# Altium integrated library NSC MiscPower.IntLib: 1417 symbols (part 31 of 39)
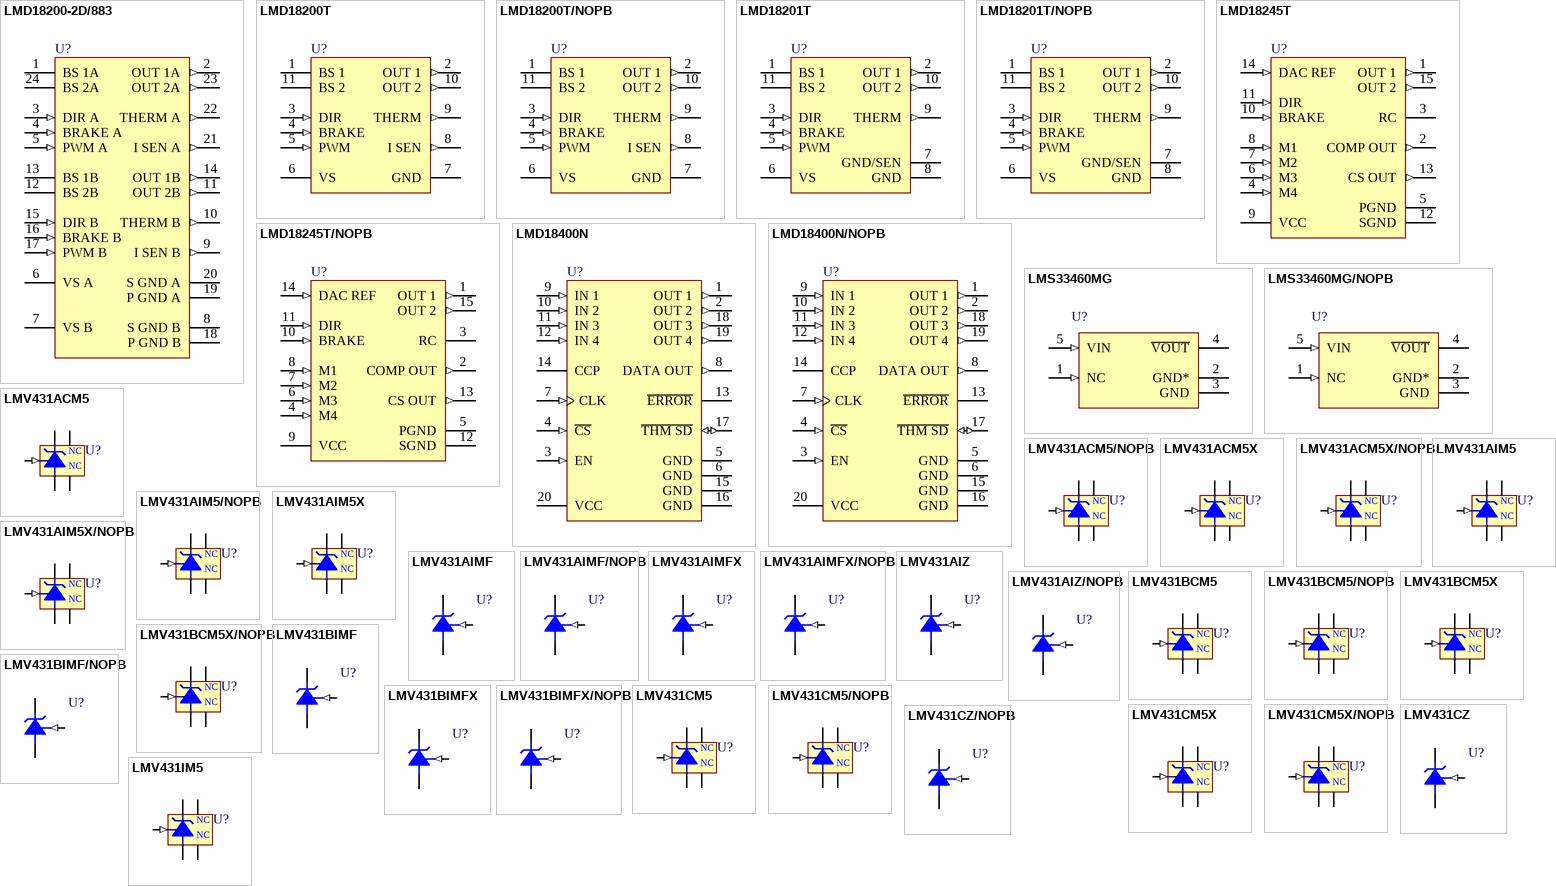
[diagram p81: symbols LMD18200-2D/883 to LMV431IM5]

## LMV431BCM5X/NOPB
designator U?
Low-Voltage (1.24V) Adjustable Precision Shunt Regulators, 5-pin SOT-23, Pb-Free; PartNumber: LMV431BCM5X/NOPB; Manufacturer: National Semiconductor; PackageTopMarking: N09C*XTT; PowerWise: N; CompType: MiscPower; Published: 1-Mar-2010; DatasheetVersion: May-2005; PackageVersion: revD, Aug-2008; PackageReference: MF05A; Publisher: Altium Limited; PackageDescription: Molded SOT-23, .115 x .063 x .040 in Body, 5 Lead, .0375 in Pitch; Supplier 1: Digi-Key; Supplier Part Number 1: LMV431BCM5X-ND; RoHS: Y; PinCount: 5; ComponentLink1Description: LMV431B Datasheet; ComponentLink1URL: http://www.national.com/ds/LM/LMV431B.pdf; ComponentLink2Description: LMV431B Web Page; ComponentLink2URL: http://www.national.com/pf/LM/LMV431B.html; ComponentLink3Description: MF05A Package Page; ComponentLink3URL: http://www.national.com/packaging/folders/mf05a.html
footprint MF05A_N (SOT23, 5-Leads, Body 2.9x1.6mm, Pitch 0.95mm, Lead Span 2.8mm, IPC Medium Density)
footprint MF05A_L (SOT23, 5-Leads, Body 2.9x1.6mm, Pitch 0.95mm, Lead Span 2.8mm, IPC High Density)
footprint MF05A_M (SOT23, 5-Leads, Body 2.9x1.6mm, Pitch 0.95mm, Lead Span 2.8mm, IPC Low Density)
pins: 1 NC, 2 NC, 3 K, 4 REF (in), 5 A

## LMV431BIMF
designator U?
Low-Voltage (1.24V) Adjustable Precision Shunt Regulator, 3-pin SOT-23; PartNumber: LMV431BIMF; Manufacturer: National Semiconductor; PackageTopMarking: RLB*XTT; PowerWise: N; CompType: MiscPower; Published: 4-Dec-2008; DatasheetVersion: May-2005; PackageVersion: revB, Mar-2003; PackageReference: MF03A; Publisher: Altium Limited; PackageDescription: Molded SOT-23, .115 x .051 x .037in Body, 3 Lead, .075 in Pitch; Supplier 1: Farnell; Supplier Part Number 1: 1798372; RoHS: N; PinCount: 3; ComponentLink1Description: LMV431B Datasheet; ComponentLink1URL: http://www.national.com/ds/LM/LMV431B.pdf; ComponentLink2Description: LMV431B Web Page; ComponentLink2URL: http://www.national.com/pf/LM/LMV431B.html; ComponentLink3Description: MF03A Package Page; ComponentLink3URL: http://www.national.com/packaging/folders/mf03a.html
footprint MF03A_N (SOT23, 3-Leads, Body 2.9x1.3mm, Pitch 0.95mm, Lead Span 2.4mm, IPC Medium Density)
footprint MF03A_L (SOT23, 3-Leads, Body 2.9x1.3mm, Pitch 0.95mm, Lead Span 2.4mm, IPC High Density)
footprint MF03A_M (SOT23, 3-Leads, Body 2.9x1.3mm, Pitch 0.95mm, Lead Span 2.4mm, IPC Low Density)
pins: 1 REF (in), 2 K, 3 A

## LMV431BIMF/NOPB
designator U?
Low-Voltage (1.24V) Adjustable Precision Shunt Regulators, 3-pin SOT-23, Pb-Free; PartNumber: LMV431BIMF/NOPB; Manufacturer: National Semiconductor; PackageTopMarking: RLB*XTT; PowerWise: N; CompType: MiscPower; Published: 1-Mar-2010; DatasheetVersion: May-2005; PackageVersion: revB, Mar-2003; PackageReference: MF03A; Publisher: Altium Limited; PackageDescription: Molded SOT-23, .115 x .051 x .037in Body, 3 Lead, .075 in Pitch; Supplier 1: Digi-Key; Supplier Part Number 1: LMV431BIMFTR-ND; Supplier 2: Digi-Key; Supplier Part Number 2: LMV431BIMFCT-ND; Supplier 3: Digi-Key; Supplier Part Number 3: LMV431BIMFDKR-ND; RoHS: Y; PinCount: 3; ComponentLink1Description: LMV431B Datasheet; ComponentLink1URL: http://www.national.com/ds/LM/LMV431B.pdf; ComponentLink2Description: LMV431B Web Page; ComponentLink2URL: http://www.national.com/pf/LM/LMV431B.html; ComponentLink3Description: MF03A Package Page; ComponentLink3URL: http://www.national.com/packaging/folders/mf03a.html
footprint MF03A_N (SOT23, 3-Leads, Body 2.9x1.3mm, Pitch 0.95mm, Lead Span 2.4mm, IPC Medium Density)
footprint MF03A_L (SOT23, 3-Leads, Body 2.9x1.3mm, Pitch 0.95mm, Lead Span 2.4mm, IPC High Density)
footprint MF03A_M (SOT23, 3-Leads, Body 2.9x1.3mm, Pitch 0.95mm, Lead Span 2.4mm, IPC Low Density)
pins: 1 REF (in), 2 K, 3 A

## LMV431BIMFX
designator U?
Low-Voltage (1.24V) Adjustable Precision Shunt Regulators, 3-pin SOT-23; PartNumber: LMV431BIMFX; Manufacturer: National Semiconductor; PackageTopMarking: RLB*XTT; PowerWise: N; CompType: MiscPower; Published: 1-Mar-2010; DatasheetVersion: May-2005; PackageVersion: revB, Mar-2003; PackageReference: MF03A; Publisher: Altium Limited; PackageDescription: Molded SOT-23, .115 x .051 x .037in Body, 3 Lead, .075 in Pitch; RoHS: N; PinCount: 3; ComponentLink1Description: LMV431B Datasheet; ComponentLink1URL: http://www.national.com/ds/LM/LMV431B.pdf; ComponentLink2Description: LMV431B Web Page; ComponentLink2URL: http://www.national.com/pf/LM/LMV431B.html; ComponentLink3Description: MF03A Package Page; ComponentLink3URL: http://www.national.com/packaging/folders/mf03a.html
footprint MF03A_N (SOT23, 3-Leads, Body 2.9x1.3mm, Pitch 0.95mm, Lead Span 2.4mm, IPC Medium Density)
footprint MF03A_L (SOT23, 3-Leads, Body 2.9x1.3mm, Pitch 0.95mm, Lead Span 2.4mm, IPC High Density)
footprint MF03A_M (SOT23, 3-Leads, Body 2.9x1.3mm, Pitch 0.95mm, Lead Span 2.4mm, IPC Low Density)
pins: 1 REF (in), 2 K, 3 A

## LMV431BIMFX/NOPB
designator U?
Low-Voltage (1.24V) Adjustable Precision Shunt Regulators, 3-pin SOT-23, Pb-Free; PartNumber: LMV431BIMFX/NOPB; Manufacturer: National Semiconductor; PackageTopMarking: RLB*XTT; PowerWise: N; CompType: MiscPower; Published: 1-Mar-2010; DatasheetVersion: May-2005; PackageVersion: revB, Mar-2003; PackageReference: MF03A; Publisher: Altium Limited; PackageDescription: Molded SOT-23, .115 x .051 x .037in Body, 3 Lead, .075 in Pitch; Supplier 1: Digi-Key; Supplier Part Number 1: LMV431BIMFX-ND; RoHS: Y; PinCount: 3; ComponentLink1Description: LMV431B Datasheet; ComponentLink1URL: http://www.national.com/ds/LM/LMV431B.pdf; ComponentLink2Description: LMV431B Web Page; ComponentLink2URL: http://www.national.com/pf/LM/LMV431B.html; ComponentLink3Description: MF03A Package Page; ComponentLink3URL: http://www.national.com/packaging/folders/mf03a.html
footprint MF03A_N (SOT23, 3-Leads, Body 2.9x1.3mm, Pitch 0.95mm, Lead Span 2.4mm, IPC Medium Density)
footprint MF03A_L (SOT23, 3-Leads, Body 2.9x1.3mm, Pitch 0.95mm, Lead Span 2.4mm, IPC High Density)
footprint MF03A_M (SOT23, 3-Leads, Body 2.9x1.3mm, Pitch 0.95mm, Lead Span 2.4mm, IPC Low Density)
pins: 1 REF (in), 2 K, 3 A

## LMV431CM5
designator U?
Low-Voltage (1.24V) Adjustable Precision Shunt Regulator, 5-pin SOT-23; PartNumber: LMV431CM5; Manufacturer: National Semiconductor; PackageTopMarking: N09B*XTT; PowerWise: N; CompType: MiscPower; Published: 4-Dec-2008; DatasheetVersion: May-2005; PackageVersion: revD, Aug-2008; PackageReference: MF05A; Publisher: Altium Limited; PackageDescription: Molded SOT-23, .115 x .063 x .040 in Body, 5 Lead, .0375 in Pitch; Supplier 1: Digi-Key; Supplier Part Number 1: LMV431CM5TR-ND; Supplier 2: Digi-Key; Supplier Part Number 2: LMV431CM5CT-ND; Supplier 3: Farnell; Supplier Part Number 3: 9778381; RoHS: N; PinCount: 5; ComponentLink1Description: LMV431 Datasheet; ComponentLink1URL: http://www.national.com/ds/LM/LMV431.pdf; ComponentLink2Description: LMV431 Web Page; ComponentLink2URL: http://www.national.com/pf/LM/LMV431.html; ComponentLink3Description: MF05A Package Page; ComponentLink3URL: http://www.national.com/packaging/folders/mf05a.html
footprint MF05A_N (SOT23, 5-Leads, Body 2.9x1.6mm, Pitch 0.95mm, Lead Span 2.8mm, IPC Medium Density)
footprint MF05A_L (SOT23, 5-Leads, Body 2.9x1.6mm, Pitch 0.95mm, Lead Span 2.8mm, IPC High Density)
footprint MF05A_M (SOT23, 5-Leads, Body 2.9x1.6mm, Pitch 0.95mm, Lead Span 2.8mm, IPC Low Density)
pins: 1 NC, 2 NC, 3 K, 4 REF (in), 5 A

## LMV431CM5/NOPB
designator U?
Low-Voltage (1.24V) Adjustable Precision Shunt Regulators, 5-pin SOT-23, Pb-Free; PartNumber: LMV431CM5/NOPB; Manufacturer: National Semiconductor; PackageTopMarking: N09B*XTT; PowerWise: N; CompType: MiscPower; Published: 1-Mar-2010; DatasheetVersion: May-2005; PackageVersion: revD, Aug-2008; PackageReference: MF05A; Publisher: Altium Limited; PackageDescription: Molded SOT-23, .115 x .063 x .040 in Body, 5 Lead, .0375 in Pitch; Supplier 1: Digi-Key; Supplier Part Number 1: LMV431CM5/NOPBTR-ND; Supplier 2: Digi-Key; Supplier Part Number 2: LMV431CM5/NOPBCT-ND; Supplier 3: Digi-Key; Supplier Part Number 3: LMV431CM5/NOPBDKR-ND; Supplier 4: Farnell; Supplier Part Number 4: 1693974; RoHS: Y; PinCount: 5; ComponentLink1Description: LMV431 Datasheet; ComponentLink1URL: http://www.national.com/ds/LM/LMV431.pdf; ComponentLink2Description: LMV431 Web Page; ComponentLink2URL: http://www.national.com/pf/LM/LMV431.html; ComponentLink3Description: MF05A Package Page; ComponentLink3URL: http://www.national.com/packaging/folders/mf05a.html
footprint MF05A_N (SOT23, 5-Leads, Body 2.9x1.6mm, Pitch 0.95mm, Lead Span 2.8mm, IPC Medium Density)
footprint MF05A_L (SOT23, 5-Leads, Body 2.9x1.6mm, Pitch 0.95mm, Lead Span 2.8mm, IPC High Density)
footprint MF05A_M (SOT23, 5-Leads, Body 2.9x1.6mm, Pitch 0.95mm, Lead Span 2.8mm, IPC Low Density)
pins: 1 NC, 2 NC, 3 K, 4 REF (in), 5 A

## LMV431CM5X
designator U?
Low-Voltage (1.24V) Adjustable Precision Shunt Regulators, 5-pin SOT-23; PartNumber: LMV431CM5X; Manufacturer: National Semiconductor; PackageTopMarking: N09B*XTT; PowerWise: N; CompType: MiscPower; Published: 1-Mar-2010; DatasheetVersion: May-2005; PackageVersion: revD, Aug-2008; PackageReference: MF05A; Publisher: Altium Limited; PackageDescription: Molded SOT-23, .115 x .063 x .040 in Body, 5 Lead, .0375 in Pitch; Supplier 1: Digi-Key; Supplier Part Number 1: LMV431CM5X-ND; RoHS: N; PinCount: 5; ComponentLink1Description: LMV431 Datasheet; ComponentLink1URL: http://www.national.com/ds/LM/LMV431.pdf; ComponentLink2Description: LMV431 Web Page; ComponentLink2URL: http://www.national.com/pf/LM/LMV431.html; ComponentLink3Description: MF05A Package Page; ComponentLink3URL: http://www.national.com/packaging/folders/mf05a.html
footprint MF05A_N (SOT23, 5-Leads, Body 2.9x1.6mm, Pitch 0.95mm, Lead Span 2.8mm, IPC Medium Density)
footprint MF05A_L (SOT23, 5-Leads, Body 2.9x1.6mm, Pitch 0.95mm, Lead Span 2.8mm, IPC High Density)
footprint MF05A_M (SOT23, 5-Leads, Body 2.9x1.6mm, Pitch 0.95mm, Lead Span 2.8mm, IPC Low Density)
pins: 1 NC, 2 NC, 3 K, 4 REF (in), 5 A

## LMV431CM5X/NOPB
designator U?
Low-Voltage (1.24V) Adjustable Precision Shunt Regulators, 5-pin SOT-23, Pb-Free; PartNumber: LMV431CM5X/NOPB; Manufacturer: National Semiconductor; PackageTopMarking: N09B*XTT; PowerWise: N; CompType: MiscPower; Published: 1-Mar-2010; DatasheetVersion: May-2005; PackageVersion: revD, Aug-2008; PackageReference: MF05A; Publisher: Altium Limited; PackageDescription: Molded SOT-23, .115 x .063 x .040 in Body, 5 Lead, .0375 in Pitch; Supplier 1: Digi-Key; Supplier Part Number 1: LMV431CM5X/NOPB-ND; RoHS: Y; PinCount: 5; ComponentLink1Description: LMV431 Datasheet; ComponentLink1URL: http://www.national.com/ds/LM/LMV431.pdf; ComponentLink2Description: LMV431 Web Page; ComponentLink2URL: http://www.national.com/pf/LM/LMV431.html; ComponentLink3Description: MF05A Package Page; ComponentLink3URL: http://www.national.com/packaging/folders/mf05a.html
footprint MF05A_N (SOT23, 5-Leads, Body 2.9x1.6mm, Pitch 0.95mm, Lead Span 2.8mm, IPC Medium Density)
footprint MF05A_L (SOT23, 5-Leads, Body 2.9x1.6mm, Pitch 0.95mm, Lead Span 2.8mm, IPC High Density)
footprint MF05A_M (SOT23, 5-Leads, Body 2.9x1.6mm, Pitch 0.95mm, Lead Span 2.8mm, IPC Low Density)
pins: 1 NC, 2 NC, 3 K, 4 REF (in), 5 A

## LMV431CZ
designator U?
Low-Voltage (1.24V) Adjustable Precision Shunt Regulator, 3-pin TO-92; PartNumber: LMV431CZ; Manufacturer: National Semiconductor; PackageTopMarking: NSXYTT*LMV431*CZ; PowerWise: N; CompType: MiscPower; Published: 29-May-2009; DatasheetVersion: May-2005; PackageVersion: revG, Sep-2000; PackageReference: Z03A; Publisher: Altium Limited; PackageDescription: TO-92, Molded, 3 Lead; Supplier 1: Farnell; Supplier Part Number 1: 9486240; RoHS: N; PinCount: 3; Code_JEDEC: TO-226-AA; ComponentLink1Description: LMV431 Datasheet; ComponentLink1URL: http://www.national.com/ds/LM/LMV431.pdf; ComponentLink2Description: LMV431 Web Page; ComponentLink2URL: http://www.national.com/pf/LM/LMV431.html; ComponentLink3Description: Z03A Package Page; ComponentLink3URL: http://www.national.com/packaging/folders/z03a.html
footprint Z03A (TO, Flat Index; 3 In-Line, Axial Leads; Body Dia. 5mm; Leads 0.55 x 0.50 mm (max))
pins: 1 REF (in), 2 A, 3 K

## LMV431CZ/NOPB
designator U?
Low-Voltage (1.24V) Adjustable Precision Shunt Regulators, 3-pin TO-92, Pb-Free; PartNumber: LMV431CZ/NOPB; Manufacturer: National Semiconductor; PackageTopMarking: NSXYTT*LMV431*CZ; PowerWise: N; CompType: MiscPower; Published: 1-Mar-2010; DatasheetVersion: May-2005; PackageVersion: revG, Sep-2000; PackageReference: Z03A; Publisher: Altium Limited; PackageDescription: TO-92, Molded, 3 Lead; Supplier 1: Digi-Key; Supplier Part Number 1: LMV431CZ-ND; RoHS: Y; PinCount: 3; Code_JEDEC: TO-226-AA; ComponentLink1Description: LMV431 Datasheet; ComponentLink1URL: http://www.national.com/ds/LM/LMV431.pdf; ComponentLink2Description: LMV431 Web Page; ComponentLink2URL: http://www.national.com/pf/LM/LMV431.html; ComponentLink3Description: Z03A Package Page; ComponentLink3URL: http://www.national.com/packaging/folders/z03a.html
footprint Z03A (TO, Flat Index; 3 In-Line, Axial Leads; Body Dia. 5mm; Leads 0.55 x 0.50 mm (max))
pins: 1 REF (in), 2 A, 3 K

## LMV431IM5
designator U?
Low-Voltage (1.24V) Adjustable Precision Shunt Regulator, 5-pin SOT-23; PartNumber: LMV431IM5; Manufacturer: National Semiconductor; PackageTopMarking: N08B*XTT; PowerWise: N; CompType: MiscPower; Published: 4-Dec-2008; DatasheetVersion: May-2005; PackageVersion: revD, Aug-2008; PackageReference: MF05A; Publisher: Altium Limited; PackageDescription: Molded SOT-23, .115 x .063 x .040 in Body, 5 Lead, .0375 in Pitch; Supplier 1: Farnell; Supplier Part Number 1: 9778390; RoHS: N; PinCount: 5; ComponentLink1Description: LMV431 Datasheet; ComponentLink1URL: http://www.national.com/ds/LM/LMV431.pdf; ComponentLink2Description: LMV431 Web Page; ComponentLink2URL: http://www.national.com/pf/LM/LMV431.html; ComponentLink3Description: MF05A Package Page; ComponentLink3URL: http://www.national.com/packaging/folders/mf05a.html
footprint MF05A_N (SOT23, 5-Leads, Body 2.9x1.6mm, Pitch 0.95mm, Lead Span 2.8mm, IPC Medium Density)
footprint MF05A_L (SOT23, 5-Leads, Body 2.9x1.6mm, Pitch 0.95mm, Lead Span 2.8mm, IPC High Density)
footprint MF05A_M (SOT23, 5-Leads, Body 2.9x1.6mm, Pitch 0.95mm, Lead Span 2.8mm, IPC Low Density)
pins: 1 NC, 2 NC, 3 K, 4 REF (in), 5 A

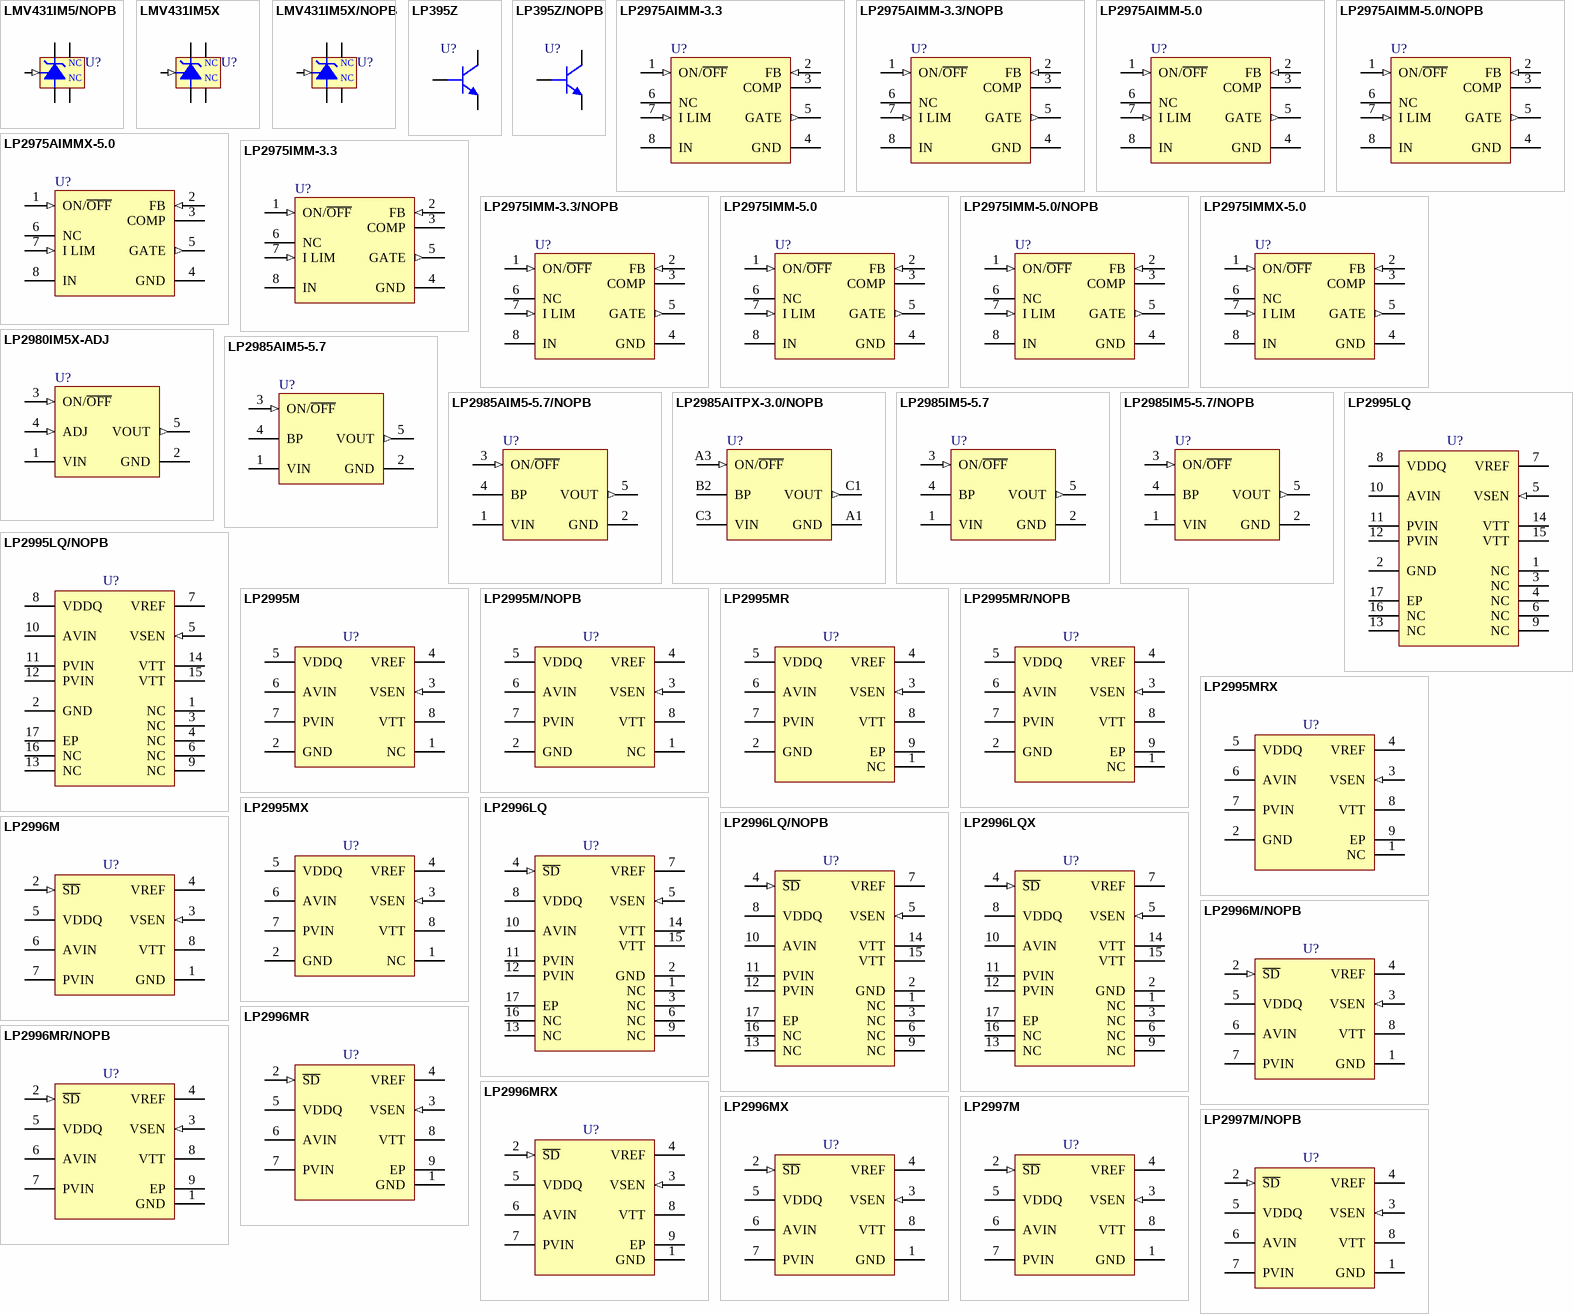
[diagram p34: symbols LMV431IM5/NOPB to LP2997M/NOPB]

## LMV431IM5/NOPB
designator U?
Low-Voltage (1.24V) Adjustable Precision Shunt Regulators, 5-pin SOT-23, Pb-Free; PartNumber: LMV431IM5/NOPB; Manufacturer: National Semiconductor; PackageTopMarking: N08B*XTT; PowerWise: N; CompType: MiscPower; Published: 1-Mar-2010; DatasheetVersion: May-2005; PackageVersion: revD, Aug-2008; PackageReference: MF05A; Publisher: Altium Limited; PackageDescription: Molded SOT-23, .115 x .063 x .040 in Body, 5 Lead, .0375 in Pitch; Supplier 1: Digi-Key; Supplier Part Number 1: LMV431IM5TR-ND; Supplier 2: Digi-Key; Supplier Part Number 2: LMV431IM5CT-ND; Supplier 3: Digi-Key; Supplier Part Number 3: LMV431IM5DKR-ND; Supplier 4: Farnell; Supplier Part Number 4: 1693975; RoHS: Y; PinCount: 5; ComponentLink1Description: LMV431 Datasheet; ComponentLink1URL: http://www.national.com/ds/LM/LMV431.pdf; ComponentLink2Description: LMV431 Web Page; ComponentLink2URL: http://www.national.com/pf/LM/LMV431.html; ComponentLink3Description: MF05A Package Page; ComponentLink3URL: http://www.national.com/packaging/folders/mf05a.html
footprint MF05A_N (SOT23, 5-Leads, Body 2.9x1.6mm, Pitch 0.95mm, Lead Span 2.8mm, IPC Medium Density)
footprint MF05A_L (SOT23, 5-Leads, Body 2.9x1.6mm, Pitch 0.95mm, Lead Span 2.8mm, IPC High Density)
footprint MF05A_M (SOT23, 5-Leads, Body 2.9x1.6mm, Pitch 0.95mm, Lead Span 2.8mm, IPC Low Density)
pins: 1 NC, 2 NC, 3 K, 4 REF (in), 5 A

## LMV431IM5X
designator U?
Low-Voltage (1.24V) Adjustable Precision Shunt Regulators, 5-pin SOT-23; PartNumber: LMV431IM5X; Manufacturer: National Semiconductor; PackageTopMarking: N08B*XTT; PowerWise: N; CompType: MiscPower; Published: 1-Mar-2010; DatasheetVersion: May-2005; PackageVersion: revD, Aug-2008; PackageReference: MF05A; Publisher: Altium Limited; PackageDescription: Molded SOT-23, .115 x .063 x .040 in Body, 5 Lead, .0375 in Pitch; RoHS: N; PinCount: 5; ComponentLink1Description: LMV431 Datasheet; ComponentLink1URL: http://www.national.com/ds/LM/LMV431.pdf; ComponentLink2Description: LMV431 Web Page; ComponentLink2URL: http://www.national.com/pf/LM/LMV431.html; ComponentLink3Description: MF05A Package Page; ComponentLink3URL: http://www.national.com/packaging/folders/mf05a.html
footprint MF05A_N (SOT23, 5-Leads, Body 2.9x1.6mm, Pitch 0.95mm, Lead Span 2.8mm, IPC Medium Density)
footprint MF05A_L (SOT23, 5-Leads, Body 2.9x1.6mm, Pitch 0.95mm, Lead Span 2.8mm, IPC High Density)
footprint MF05A_M (SOT23, 5-Leads, Body 2.9x1.6mm, Pitch 0.95mm, Lead Span 2.8mm, IPC Low Density)
pins: 1 NC, 2 NC, 3 K, 4 REF (in), 5 A

## LMV431IM5X/NOPB
designator U?
Low-Voltage (1.24V) Adjustable Precision Shunt Regulators, 5-pin SOT-23, Pb-Free; PartNumber: LMV431IM5X/NOPB; Manufacturer: National Semiconductor; PackageTopMarking: N08B*XTT; PowerWise: N; CompType: MiscPower; Published: 1-Mar-2010; DatasheetVersion: May-2005; PackageVersion: revD, Aug-2008; PackageReference: MF05A; Publisher: Altium Limited; PackageDescription: Molded SOT-23, .115 x .063 x .040 in Body, 5 Lead, .0375 in Pitch; Supplier 1: Digi-Key; Supplier Part Number 1: LMV431IM5X-ND; RoHS: Y; PinCount: 5; ComponentLink1Description: LMV431 Datasheet; ComponentLink1URL: http://www.national.com/ds/LM/LMV431.pdf; ComponentLink2Description: LMV431 Web Page; ComponentLink2URL: http://www.national.com/pf/LM/LMV431.html; ComponentLink3Description: MF05A Package Page; ComponentLink3URL: http://www.national.com/packaging/folders/mf05a.html
footprint MF05A_N (SOT23, 5-Leads, Body 2.9x1.6mm, Pitch 0.95mm, Lead Span 2.8mm, IPC Medium Density)
footprint MF05A_L (SOT23, 5-Leads, Body 2.9x1.6mm, Pitch 0.95mm, Lead Span 2.8mm, IPC High Density)
footprint MF05A_M (SOT23, 5-Leads, Body 2.9x1.6mm, Pitch 0.95mm, Lead Span 2.8mm, IPC Low Density)
pins: 1 NC, 2 NC, 3 K, 4 REF (in), 5 A

## LP395Z
designator U?
Ultra Reliable Power Transistor, 3-pin TO-92; PartNumber: LP395Z; Manufacturer: National Semiconductor; PackageTopMarking: NSXYTT*LP*395Z; PowerWise: N; CompType: MiscPower; Published: 4-Dec-2008; DatasheetVersion: Apr-2005; PackageVersion: revG, Sep-2000; PackageReference: Z03A; Publisher: Altium Limited; PackageDescription: TO-92, Molded, 3 Lead; Supplier 1: Farnell; Supplier Part Number 1: 9488286; RoHS: N; PinCount: 3; Code_JEDEC: TO-226-AA; ComponentLink1Description: LP395 Datasheet; ComponentLink1URL: http://www.national.com/ds/LP/LP395.pdf; ComponentLink2Description: LP395 Web Page; ComponentLink2URL: http://www.national.com/pf/LP/LP395.html; ComponentLink3Description: Z03A Package Page; ComponentLink3URL: http://www.national.com/packaging/folders/z03a.html
footprint Z03A (TO, Flat Index; 3 In-Line, Axial Leads; Body Dia. 5mm; Leads 0.55 x 0.50 mm (max))
pins: 1 C, 2 B, 3 E

## LP395Z/NOPB
designator U?
Ultra Reliable Power Transistor, 3-pin TO-92, Pb-Free; PartNumber: LP395Z/NOPB; Manufacturer: National Semiconductor; PackageTopMarking: NSXYTT*LP*395Z; PowerWise: N; CompType: MiscPower; Published: 1-Mar-2010; DatasheetVersion: Apr-2005; PackageVersion: revG, Sep-2000; PackageReference: Z03A; Publisher: Altium Limited; PackageDescription: TO-92, Molded, 3 Lead; Supplier 1: Digi-Key; Supplier Part Number 1: LP395Z-ND; Supplier 2: Farnell; Supplier Part Number 2: 1685345; RoHS: Y; PinCount: 3; Code_JEDEC: TO-226-AA; ComponentLink1Description: LP395 Datasheet; ComponentLink1URL: http://www.national.com/ds/LP/LP395.pdf; ComponentLink2Description: LP395 Web Page; ComponentLink2URL: http://www.national.com/pf/LP/LP395.html; ComponentLink3Description: Z03A Package Page; ComponentLink3URL: http://www.national.com/packaging/folders/z03a.html
footprint Z03A (TO, Flat Index; 3 In-Line, Axial Leads; Body Dia. 5mm; Leads 0.55 x 0.50 mm (max))
pins: 1 C, 2 B, 3 E

## LP2975AIMM-3.3
designator U?
MOSFET LDO Driver/Controller, 3.3V Output, 8-pin MSOP; PartNumber: LP2975AIMM-3.3; Manufacturer: National Semiconductor; PackageTopMarking: ZXTT*L45A; PowerWise: N; CompType: MiscPower; Published: 29-May-2009; DatasheetVersion: Mar-2005; PackageVersion: revF, Apr-2008; PackageReference: MUA08A; Publisher: Altium Limited; PackageDescription: MINI SOIC, .118 x .118 x .034in, 8 Lead, .0256in Pitch; RoHS: N; PinCount: 8; Code_JEDEC: MO-187-AA; ComponentLink1Description: LP2975 Datasheet; ComponentLink1URL: http://www.national.com/ds/LP/LP2975.pdf; ComponentLink2Description: LP2975 Web Page; ComponentLink2URL: http://www.national.com/pf/LP/LP2975.html; ComponentLink3Description: MUA08A Package Page; ComponentLink3URL: http://www.national.com/packaging/folders/mua08a.html
footprint MUA08A_N (TSOP, 8-Leads, Body 3x3mm, Pitch 0.65mm, IPC Medium Density)
footprint MUA08A_L (TSOP, 8-Leads, Body 3x3mm, Pitch 0.65mm, IPC High Density)
footprint MUA08A_M (TSOP, 8-Leads, Body 3x3mm, Pitch 0.65mm, IPC Low Density)
pins: 1 ON/~{OFF} (in), 2 FB (in), 3 COMP, 4 GND (power), 5 GATE (out), 6 NC, 7 I LIM (in), 8 IN (power)

## LP2975AIMM-3.3/NOPB
designator U?
MOSFET LDO Driver/Controller, 8-pin MSOP, Pb-Free; PartNumber: LP2975AIMM-3.3/NOPB; Manufacturer: National Semiconductor; PackageTopMarking: ZXTT*L45A; PowerWise: N; CompType: MiscPower; Published: 1-Mar-2010; DatasheetVersion: Mar-2005; PackageVersion: revF, Apr-2008; PackageReference: MUA08A; Publisher: Altium Limited; PackageDescription: MINI SOIC, .118 x .118 x .034in, 8 Lead, .0256in Pitch; Supplier 1: Digi-Key; Supplier Part Number 1: LP2975AIMM-3.3TR-ND; Supplier 2: Digi-Key; Supplier Part Number 2: LP2975AIMM-3.3CT-ND; Supplier 3: Digi-Key; Supplier Part Number 3: LP2975AIMM-3.3DKR-ND; RoHS: Y; PinCount: 8; Code_JEDEC: MO-187-AA; ComponentLink1Description: LP2975 Datasheet; ComponentLink1URL: http://www.national.com/ds/LP/LP2975.pdf; ComponentLink2Description: LP2975 Web Page; ComponentLink2URL: http://www.national.com/pf/LP/LP2975.html; ComponentLink3Description: MUA08A Package Page; ComponentLink3URL: http://www.national.com/packaging/folders/mua08a.html
footprint MUA08A_N (TSOP, 8-Leads, Body 3x3mm, Pitch 0.65mm, IPC Medium Density)
footprint MUA08A_L (TSOP, 8-Leads, Body 3x3mm, Pitch 0.65mm, IPC High Density)
footprint MUA08A_M (TSOP, 8-Leads, Body 3x3mm, Pitch 0.65mm, IPC Low Density)
pins: 1 ON/~{OFF} (in), 2 FB (in), 3 COMP, 4 GND (power), 5 GATE (out), 6 NC, 7 I LIM (in), 8 IN (power)

## LP2975AIMM-5.0
designator U?
MOSFET LDO Driver/Controller, 5.0V Output, 8-pin MSOP; PartNumber: LP2975AIMM-5.0; Manufacturer: National Semiconductor; PackageTopMarking: ZXTT*L46A; PowerWise: N; CompType: MiscPower; Published: 4-Dec-2008; DatasheetVersion: Mar-2005; PackageVersion: revF, Apr-2008; PackageReference: MUA08A; Publisher: Altium Limited; PackageDescription: MINI SOIC, .118 x .118 x .034in, 8 Lead, .0256in Pitch; Supplier 1: Farnell; Supplier Part Number 1: 3904994; RoHS: N; PinCount: 8; Code_JEDEC: MO-187-AA; ComponentLink1Description: LP2975 Datasheet; ComponentLink1URL: http://www.national.com/ds/LP/LP2975.pdf; ComponentLink2Description: LP2975 Web Page; ComponentLink2URL: http://www.national.com/pf/LP/LP2975.html; ComponentLink3Description: MUA08A Package Page; ComponentLink3URL: http://www.national.com/packaging/folders/mua08a.html
footprint MUA08A_N (TSOP, 8-Leads, Body 3x3mm, Pitch 0.65mm, IPC Medium Density)
footprint MUA08A_L (TSOP, 8-Leads, Body 3x3mm, Pitch 0.65mm, IPC High Density)
footprint MUA08A_M (TSOP, 8-Leads, Body 3x3mm, Pitch 0.65mm, IPC Low Density)
pins: 1 ON/~{OFF} (in), 2 FB (in), 3 COMP, 4 GND (power), 5 GATE (out), 6 NC, 7 I LIM (in), 8 IN (power)

## LP2975AIMM-5.0/NOPB
designator U?
MOSFET LDO Driver/Controller, 8-pin MSOP, Pb-Free; PartNumber: LP2975AIMM-5.0/NOPB; Manufacturer: National Semiconductor; PackageTopMarking: ZXTT*L46A; PowerWise: N; CompType: MiscPower; Published: 1-Mar-2010; DatasheetVersion: Mar-2005; PackageVersion: revF, Apr-2008; PackageReference: MUA08A; Publisher: Altium Limited; PackageDescription: MINI SOIC, .118 x .118 x .034in, 8 Lead, .0256in Pitch; Supplier 1: Digi-Key; Supplier Part Number 1: LP2975AIMM-5.0TR-ND; Supplier 2: Digi-Key; Supplier Part Number 2: LP2975AIMM-5.0CT-ND; Supplier 3: Digi-Key; Supplier Part Number 3: LP2975AIMM-5.0DKR-ND; Supplier 4: Farnell; Supplier Part Number 4: 1693515; RoHS: Y; PinCount: 8; Code_JEDEC: MO-187-AA; ComponentLink1Description: LP2975 Datasheet; ComponentLink1URL: http://www.national.com/ds/LP/LP2975.pdf; ComponentLink2Description: LP2975 Web Page; ComponentLink2URL: http://www.national.com/pf/LP/LP2975.html; ComponentLink3Description: MUA08A Package Page; ComponentLink3URL: http://www.national.com/packaging/folders/mua08a.html
footprint MUA08A_N (TSOP, 8-Leads, Body 3x3mm, Pitch 0.65mm, IPC Medium Density)
footprint MUA08A_L (TSOP, 8-Leads, Body 3x3mm, Pitch 0.65mm, IPC High Density)
footprint MUA08A_M (TSOP, 8-Leads, Body 3x3mm, Pitch 0.65mm, IPC Low Density)
pins: 1 ON/~{OFF} (in), 2 FB (in), 3 COMP, 4 GND (power), 5 GATE (out), 6 NC, 7 I LIM (in), 8 IN (power)

## LP2975AIMMX-5.0
designator U?
MOSFET LDO Driver/Controller, 8-pin MSOP; PartNumber: LP2975AIMMX-5.0; Manufacturer: National Semiconductor; PackageTopMarking: ZXTT*L46A; PowerWise: N; CompType: MiscPower; Published: 1-Mar-2010; DatasheetVersion: Mar-2005; PackageVersion: revF, Apr-2008; PackageReference: MUA08A; Publisher: Altium Limited; PackageDescription: MINI SOIC, .118 x .118 x .034in, 8 Lead, .0256in Pitch; RoHS: N; PinCount: 8; Code_JEDEC: MO-187-AA; ComponentLink1Description: LP2975 Datasheet; ComponentLink1URL: http://www.national.com/ds/LP/LP2975.pdf; ComponentLink2Description: LP2975 Web Page; ComponentLink2URL: http://www.national.com/pf/LP/LP2975.html; ComponentLink3Description: MUA08A Package Page; ComponentLink3URL: http://www.national.com/packaging/folders/mua08a.html
footprint MUA08A_N (TSOP, 8-Leads, Body 3x3mm, Pitch 0.65mm, IPC Medium Density)
footprint MUA08A_L (TSOP, 8-Leads, Body 3x3mm, Pitch 0.65mm, IPC High Density)
footprint MUA08A_M (TSOP, 8-Leads, Body 3x3mm, Pitch 0.65mm, IPC Low Density)
pins: 1 ON/~{OFF} (in), 2 FB (in), 3 COMP, 4 GND (power), 5 GATE (out), 6 NC, 7 I LIM (in), 8 IN (power)

## LP2975IMM-3.3
designator U?
MOSFET LDO Driver/Controller, 3.3V Output, 8-pin MSOP; PartNumber: LP2975IMM-3.3; Manufacturer: National Semiconductor; PackageTopMarking: ZXTT*L45B; PowerWise: N; CompType: MiscPower; Published: 29-May-2009; DatasheetVersion: Mar-2005; PackageVersion: revF, Apr-2008; PackageReference: MUA08A; Publisher: Altium Limited; PackageDescription: MINI SOIC, .118 x .118 x .034in, 8 Lead, .0256in Pitch; RoHS: N; PinCount: 8; Code_JEDEC: MO-187-AA; ComponentLink1Description: LP2975 Datasheet; ComponentLink1URL: http://www.national.com/ds/LP/LP2975.pdf; ComponentLink2Description: LP2975 Web Page; ComponentLink2URL: http://www.national.com/pf/LP/LP2975.html; ComponentLink3Description: MUA08A Package Page; ComponentLink3URL: http://www.national.com/packaging/folders/mua08a.html
footprint MUA08A_N (TSOP, 8-Leads, Body 3x3mm, Pitch 0.65mm, IPC Medium Density)
footprint MUA08A_L (TSOP, 8-Leads, Body 3x3mm, Pitch 0.65mm, IPC High Density)
footprint MUA08A_M (TSOP, 8-Leads, Body 3x3mm, Pitch 0.65mm, IPC Low Density)
pins: 1 ON/~{OFF} (in), 2 FB (in), 3 COMP, 4 GND (power), 5 GATE (out), 6 NC, 7 I LIM (in), 8 IN (power)

## LP2975IMM-3.3/NOPB
designator U?
MOSFET LDO Driver/Controller, 8-pin MSOP, Pb-Free; PartNumber: LP2975IMM-3.3/NOPB; Manufacturer: National Semiconductor; PackageTopMarking: ZXTT*L45B; PowerWise: N; CompType: MiscPower; Published: 1-Mar-2010; DatasheetVersion: Mar-2005; PackageVersion: revF, Apr-2008; PackageReference: MUA08A; Publisher: Altium Limited; PackageDescription: MINI SOIC, .118 x .118 x .034in, 8 Lead, .0256in Pitch; Supplier 1: Digi-Key; Supplier Part Number 1: LP2975IMM-3.3TR-ND; Supplier 2: Digi-Key; Supplier Part Number 2: LP2975IMM-3.3CT-ND; Supplier 3: Digi-Key; Supplier Part Number 3: LP2975IMM-3.3DKR-ND; RoHS: Y; PinCount: 8; Code_JEDEC: MO-187-AA; ComponentLink1Description: LP2975 Datasheet; ComponentLink1URL: http://www.national.com/ds/LP/LP2975.pdf; ComponentLink2Description: LP2975 Web Page; ComponentLink2URL: http://www.national.com/pf/LP/LP2975.html; ComponentLink3Description: MUA08A Package Page; ComponentLink3URL: http://www.national.com/packaging/folders/mua08a.html
footprint MUA08A_N (TSOP, 8-Leads, Body 3x3mm, Pitch 0.65mm, IPC Medium Density)
footprint MUA08A_L (TSOP, 8-Leads, Body 3x3mm, Pitch 0.65mm, IPC High Density)
footprint MUA08A_M (TSOP, 8-Leads, Body 3x3mm, Pitch 0.65mm, IPC Low Density)
pins: 1 ON/~{OFF} (in), 2 FB (in), 3 COMP, 4 GND (power), 5 GATE (out), 6 NC, 7 I LIM (in), 8 IN (power)

## LP2975IMM-5.0
designator U?
MOSFET LDO Driver/Controller, 5.0V Output, 8-pin MSOP; PartNumber: LP2975IMM-5.0; Manufacturer: National Semiconductor; PackageTopMarking: ZXTT*L46B; PowerWise: N; CompType: MiscPower; Published: 4-Dec-2008; DatasheetVersion: Mar-2005; PackageVersion: revF, Apr-2008; PackageReference: MUA08A; Publisher: Altium Limited; PackageDescription: MINI SOIC, .118 x .118 x .034in, 8 Lead, .0256in Pitch; RoHS: N; PinCount: 8; Code_JEDEC: MO-187-AA; ComponentLink1Description: LP2975 Datasheet; ComponentLink1URL: http://www.national.com/ds/LP/LP2975.pdf; ComponentLink2Description: LP2975 Web Page; ComponentLink2URL: http://www.national.com/pf/LP/LP2975.html; ComponentLink3Description: MUA08A Package Page; ComponentLink3URL: http://www.national.com/packaging/folders/mua08a.html
footprint MUA08A_N (TSOP, 8-Leads, Body 3x3mm, Pitch 0.65mm, IPC Medium Density)
footprint MUA08A_L (TSOP, 8-Leads, Body 3x3mm, Pitch 0.65mm, IPC High Density)
footprint MUA08A_M (TSOP, 8-Leads, Body 3x3mm, Pitch 0.65mm, IPC Low Density)
pins: 1 ON/~{OFF} (in), 2 FB (in), 3 COMP, 4 GND (power), 5 GATE (out), 6 NC, 7 I LIM (in), 8 IN (power)

## LP2975IMM-5.0/NOPB
designator U?
MOSFET LDO Driver/Controller, 8-pin MSOP, Pb-Free; PartNumber: LP2975IMM-5.0/NOPB; Manufacturer: National Semiconductor; PackageTopMarking: ZXTT*L46B; PowerWise: N; CompType: MiscPower; Published: 1-Mar-2010; DatasheetVersion: Mar-2005; PackageVersion: revF, Apr-2008; PackageReference: MUA08A; Publisher: Altium Limited; PackageDescription: MINI SOIC, .118 x .118 x .034in, 8 Lead, .0256in Pitch; Supplier 1: Digi-Key; Supplier Part Number 1: LP2975IMM-5.0TR-ND; Supplier 2: Digi-Key; Supplier Part Number 2: LP2975IMM-5.0CT-ND; Supplier 3: Digi-Key; Supplier Part Number 3: LP2975IMM-5.0DKR-ND; Supplier 4: Farnell; Supplier Part Number 4: 1468978; RoHS: Y; PinCount: 8; Code_JEDEC: MO-187-AA; ComponentLink1Description: LP2975 Datasheet; ComponentLink1URL: http://www.national.com/ds/LP/LP2975.pdf; ComponentLink2Description: LP2975 Web Page; ComponentLink2URL: http://www.national.com/pf/LP/LP2975.html; ComponentLink3Description: MUA08A Package Page; ComponentLink3URL: http://www.national.com/packaging/folders/mua08a.html
footprint MUA08A_N (TSOP, 8-Leads, Body 3x3mm, Pitch 0.65mm, IPC Medium Density)
footprint MUA08A_L (TSOP, 8-Leads, Body 3x3mm, Pitch 0.65mm, IPC High Density)
footprint MUA08A_M (TSOP, 8-Leads, Body 3x3mm, Pitch 0.65mm, IPC Low Density)
pins: 1 ON/~{OFF} (in), 2 FB (in), 3 COMP, 4 GND (power), 5 GATE (out), 6 NC, 7 I LIM (in), 8 IN (power)

## LP2975IMMX-5.0
designator U?
MOSFET LDO Driver/Controller, 8-pin MSOP; PartNumber: LP2975IMMX-5.0; Manufacturer: National Semiconductor; PackageTopMarking: ZXTT*L46B; PowerWise: N; CompType: MiscPower; Published: 1-Mar-2010; DatasheetVersion: Mar-2005; PackageVersion: revF, Apr-2008; PackageReference: MUA08A; Publisher: Altium Limited; PackageDescription: MINI SOIC, .118 x .118 x .034in, 8 Lead, .0256in Pitch; RoHS: N; PinCount: 8; Code_JEDEC: MO-187-AA; ComponentLink1Description: LP2975 Datasheet; ComponentLink1URL: http://www.national.com/ds/LP/LP2975.pdf; ComponentLink2Description: LP2975 Web Page; ComponentLink2URL: http://www.national.com/pf/LP/LP2975.html; ComponentLink3Description: MUA08A Package Page; ComponentLink3URL: http://www.national.com/packaging/folders/mua08a.html
footprint MUA08A_N (TSOP, 8-Leads, Body 3x3mm, Pitch 0.65mm, IPC Medium Density)
footprint MUA08A_L (TSOP, 8-Leads, Body 3x3mm, Pitch 0.65mm, IPC High Density)
footprint MUA08A_M (TSOP, 8-Leads, Body 3x3mm, Pitch 0.65mm, IPC Low Density)
pins: 1 ON/~{OFF} (in), 2 FB (in), 3 COMP, 4 GND (power), 5 GATE (out), 6 NC, 7 I LIM (in), 8 IN (power)

## LP2980IM5X-ADJ
designator U?
Micropower 50 mA Ultra Low-Dropout Adjustable Voltage Regulator, 5-pin SOT-23; PartNumber: LP2980IM5X-ADJ; Manufacturer: National Semiconductor; PackageTopMarking: L06B*XTT; PowerWise: N; CompType: MiscPower; Published: 1-Mar-2010; DatasheetVersion: Jan-2009; PackageVersion: revD, Aug-2008; PackageReference: MF05A; Publisher: Altium Limited; PackageDescription: Molded SOT-23, .115 x .063 x .040 in Body, 5 Lead, .0375 in Pitch; RoHS: N; PinCount: 5; ComponentLink1Description: LP2980 Datasheet; ComponentLink1URL: http://www.national.com/ds/LP/LP2980-ADJ.pdf; ComponentLink2Description: LP2980 Web Page; ComponentLink2URL: http://www.national.com/pf/LP/LP2980.html; ComponentLink3Description: MF05A Package Page; ComponentLink3URL: http://www.national.com/packaging/folders/mf05a.html
footprint MF05A_N (SOT23, 5-Leads, Body 2.9x1.6mm, Pitch 0.95mm, Lead Span 2.8mm, IPC Medium Density)
footprint MF05A_L (SOT23, 5-Leads, Body 2.9x1.6mm, Pitch 0.95mm, Lead Span 2.8mm, IPC High Density)
footprint MF05A_M (SOT23, 5-Leads, Body 2.9x1.6mm, Pitch 0.95mm, Lead Span 2.8mm, IPC Low Density)
pins: 1 VIN (power), 2 GND (power), 3 ON/~{OFF} (in), 4 ADJ (in), 5 VOUT (out)

## LP2985AIM5-5.7
designator U?
Micropower 150 mA Low-Noise Ultra Low-Dropout Regulator, 5-pin SOT-23; PartNumber: LP2985AIM5-5.7; Manufacturer: National Semiconductor; PackageTopMarking: LKTA*XTT; PowerWise: N; CompType: MiscPower; Published: 4-Dec-2008; DatasheetVersion: Nov-2009; PackageVersion: revD, Aug-2008; PackageReference: MF05A; Publisher: Altium Limited; PackageDescription: Molded SOT-23, .115 x .063 x .040 in Body, 5 Lead, .0375 in Pitch; RoHS: Y; PinCount: 5; ComponentLink1Description: LP2985 Datasheet; ComponentLink1URL: http://www.national.com/ds/LP/LP2985.pdf; ComponentLink2Description: LP2985 Web Page; ComponentLink2URL: http://www.national.com/pf/LP/LP2985.html; ComponentLink3Description: MF05A Package Page; ComponentLink3URL: http://www.national.com/packaging/folders/mf05a.html
footprint MF05A_N (SOT23, 5-Leads, Body 2.9x1.6mm, Pitch 0.95mm, Lead Span 2.8mm, IPC Medium Density)
footprint MF05A_L (SOT23, 5-Leads, Body 2.9x1.6mm, Pitch 0.95mm, Lead Span 2.8mm, IPC High Density)
footprint MF05A_M (SOT23, 5-Leads, Body 2.9x1.6mm, Pitch 0.95mm, Lead Span 2.8mm, IPC Low Density)
pins: 1 VIN (power), 2 GND (power), 3 ON/~{OFF} (in), 4 BP, 5 VOUT (out)

## LP2985AIM5-5.7/NOPB
designator U?
Micropower 150 mA Low-Noise Ultra Low-Dropout Regulator, 5-pin SOT-23, Pb-Free; PartNumber: LP2985AIM5-5.7/NOPB; Manufacturer: National Semiconductor; PackageTopMarking: LKTA*XTT; PowerWise: N; CompType: MiscPower; Published: 1-Mar-2010; DatasheetVersion: Nov-2009; PackageVersion: revD, Aug-2008; PackageReference: MF05A; Publisher: Altium Limited; PackageDescription: Molded SOT-23, .115 x .063 x .040 in Body, 5 Lead, .0375 in Pitch; RoHS: Y; PinCount: 5; ComponentLink1Description: LP2985 Datasheet; ComponentLink1URL: http://www.national.com/ds/LP/LP2985.pdf; ComponentLink2Description: LP2985 Web Page; ComponentLink2URL: http://www.national.com/pf/LP/LP2985.html; ComponentLink3Description: MF05A Package Page; ComponentLink3URL: http://www.national.com/packaging/folders/mf05a.html
footprint MF05A_N (SOT23, 5-Leads, Body 2.9x1.6mm, Pitch 0.95mm, Lead Span 2.8mm, IPC Medium Density)
footprint MF05A_L (SOT23, 5-Leads, Body 2.9x1.6mm, Pitch 0.95mm, Lead Span 2.8mm, IPC High Density)
footprint MF05A_M (SOT23, 5-Leads, Body 2.9x1.6mm, Pitch 0.95mm, Lead Span 2.8mm, IPC Low Density)
pins: 1 VIN (power), 2 GND (power), 3 ON/~{OFF} (in), 4 BP, 5 VOUT (out)

## LP2985AITPX-3.0/NOPB
designator U?
Micropower 150 mA Low-Noise Ultra Low-Dropout Regulator, 5-pin Micro SMD, Pb-Free; PartNumber: LP2985AITPX-3.0/NOPB; Manufacturer: National Semiconductor; PackageTopMarking: XV*I 5; PowerWise: N; CompType: MiscPower; Published: 1-Mar-2010; DatasheetVersion: Nov-2009; PackageVersion: revA, Mar-2002; PackageReference: TPA05GAA; Publisher: Altium Limited; PackageDescription: Thin Micro SMD, 5 Bump, 0.5mm Pitch; Supplier 1: Digi-Key; Supplier Part Number 1: LP2985AITPX-3.0-ND; RoHS: Y; PinCount: 5; ComponentLink1Description: LP2985 Datasheet; ComponentLink1URL: http://www.national.com/ds/LP/LP2985.pdf; ComponentLink2Description: LP2985 Web Page; ComponentLink2URL: http://www.national.com/pf/LP/LP2985.html; ComponentLink3Description: TPA05GAA Package Page; ComponentLink3URL: http://www.national.com/packaging/folders/tpa05gaa.html
footprint TPA05GAA (Micro SMD, 5-Leads, Body 1.11x0.93mm, Pitch 0.5mm, NSC Recommended)
pins: A1 GND (power), A3 ON/~{OFF} (in), B2 BP, C1 VOUT (out), C3 VIN (power)

## LP2985IM5-5.7
designator U?
Micropower 150 mA Low-Noise Ultra Low-Dropout Regulator, 5-pin SOT-23; PartNumber: LP2985IM5-5.7; Manufacturer: National Semiconductor; PackageTopMarking: LKTB*XTT; PowerWise: N; CompType: MiscPower; Published: 4-Dec-2008; DatasheetVersion: Nov-2009; PackageVersion: revD, Aug-2008; PackageReference: MF05A; Publisher: Altium Limited; PackageDescription: Molded SOT-23, .115 x .063 x .040 in Body, 5 Lead, .0375 in Pitch; RoHS: Y; PinCount: 5; ComponentLink1Description: LP2985 Datasheet; ComponentLink1URL: http://www.national.com/ds/LP/LP2985.pdf; ComponentLink2Description: LP2985 Web Page; ComponentLink2URL: http://www.national.com/pf/LP/LP2985.html; ComponentLink3Description: MF05A Package Page; ComponentLink3URL: http://www.national.com/packaging/folders/mf05a.html
footprint MF05A_N (SOT23, 5-Leads, Body 2.9x1.6mm, Pitch 0.95mm, Lead Span 2.8mm, IPC Medium Density)
footprint MF05A_L (SOT23, 5-Leads, Body 2.9x1.6mm, Pitch 0.95mm, Lead Span 2.8mm, IPC High Density)
footprint MF05A_M (SOT23, 5-Leads, Body 2.9x1.6mm, Pitch 0.95mm, Lead Span 2.8mm, IPC Low Density)
pins: 1 VIN (power), 2 GND (power), 3 ON/~{OFF} (in), 4 BP, 5 VOUT (out)

## LP2985IM5-5.7/NOPB
designator U?
Micropower 150 mA Low-Noise Ultra Low-Dropout Regulator, 5-pin SOT-23, Pb-Free; PartNumber: LP2985IM5-5.7/NOPB; Manufacturer: National Semiconductor; PackageTopMarking: LKTB*XTT; PowerWise: N; CompType: MiscPower; Published: 1-Mar-2010; DatasheetVersion: Nov-2009; PackageVersion: revD, Aug-2008; PackageReference: MF05A; Publisher: Altium Limited; PackageDescription: Molded SOT-23, .115 x .063 x .040 in Body, 5 Lead, .0375 in Pitch; RoHS: Y; PinCount: 5; ComponentLink1Description: LP2985 Datasheet; ComponentLink1URL: http://www.national.com/ds/LP/LP2985.pdf; ComponentLink2Description: LP2985 Web Page; ComponentLink2URL: http://www.national.com/pf/LP/LP2985.html; ComponentLink3Description: MF05A Package Page; ComponentLink3URL: http://www.national.com/packaging/folders/mf05a.html
footprint MF05A_N (SOT23, 5-Leads, Body 2.9x1.6mm, Pitch 0.95mm, Lead Span 2.8mm, IPC Medium Density)
footprint MF05A_L (SOT23, 5-Leads, Body 2.9x1.6mm, Pitch 0.95mm, Lead Span 2.8mm, IPC High Density)
footprint MF05A_M (SOT23, 5-Leads, Body 2.9x1.6mm, Pitch 0.95mm, Lead Span 2.8mm, IPC Low Density)
pins: 1 VIN (power), 2 GND (power), 3 ON/~{OFF} (in), 4 BP, 5 VOUT (out)

## LP2995LQ
designator U?
DDR Termination Regulator, 16-pin LLP; PartNumber: LP2995LQ; Manufacturer: National Semiconductor; PackageTopMarking: NS*UZXYTT*L00005B; PowerWise: N; CompType: MiscPower; Published: 4-Dec-2008; DatasheetVersion: Jun-2006; PackageVersion: revA, Apr-2000; PackageReference: LQA16A; Publisher: Altium Limited; PackageDescription: LLP, Plastic, Quad, 4 x 4 x 0.75mm Body, 16 Lead, 0.5mm Pitch; Supplier 1: Farnell; Supplier Part Number 1: 1312852; RoHS: N; PinCount: 16; ComponentLink1Description: LP2995 Datasheet; ComponentLink1URL: http://www.national.com/ds/LP/LP2995.pdf; ComponentLink2Description: LP2995 Web Page; ComponentLink2URL: http://www.national.com/pf/LP/LP2995.html; ComponentLink3Description: LQA16A Package Page; ComponentLink3URL: http://www.national.com/packaging/folders/lqa16a.html
footprint LQA16A (QFN, 16-Leads, Body 4x4mm, Pitch 0.5mm, NSC Recommended)
pins: 1 NC, 2 GND (power), 3 NC, 4 NC, 5 VSEN (in), 6 NC, 7 VREF, 8 VDDQ (power), 9 NC, 10 AVIN (power), 11 PVIN (power), 12 PVIN (power), 13 NC, 14 VTT (power), 15 VTT (power), 16 NC, 17 EP (power)

## LP2995LQ/NOPB
designator U?
DDR Termination Regulator, 16-pin LLP, Pb-Free; PartNumber: LP2995LQ/NOPB; Manufacturer: National Semiconductor; PackageTopMarking: NS*UZXYTT*L00005B; PowerWise: N; CompType: MiscPower; Published: 1-Mar-2010; DatasheetVersion: Jun-2006; PackageVersion: revA, Apr-2000; PackageReference: LQA16A; Publisher: Altium Limited; PackageDescription: LLP, Plastic, Quad, 4 x 4 x 0.75mm Body, 16 Lead, 0.5mm Pitch; Supplier 1: Digi-Key; Supplier Part Number 1: LP2995LQTR-ND; Supplier 2: Digi-Key; Supplier Part Number 2: LP2995LQCT-ND; Supplier 3: Digi-Key; Supplier Part Number 3: LP2995LQDKR-ND; RoHS: Y; PinCount: 16; ComponentLink1Description: LP2995 Datasheet; ComponentLink1URL: http://www.national.com/ds/LP/LP2995.pdf; ComponentLink2Description: LP2995 Web Page; ComponentLink2URL: http://www.national.com/pf/LP/LP2995.html; ComponentLink3Description: LQA16A Package Page; ComponentLink3URL: http://www.national.com/packaging/folders/lqa16a.html
footprint LQA16A (QFN, 16-Leads, Body 4x4mm, Pitch 0.5mm, NSC Recommended)
pins: 1 NC, 2 GND (power), 3 NC, 4 NC, 5 VSEN (in), 6 NC, 7 VREF, 8 VDDQ (power), 9 NC, 10 AVIN (power), 11 PVIN (power), 12 PVIN (power), 13 NC, 14 VTT (power), 15 VTT (power), 16 NC, 17 EP (power)

## LP2995M
designator U?
DDR Termination Regulator, 8-pin Narrow SOIC; PartNumber: LP2995M; Manufacturer: National Semiconductor; PackageTopMarking: NSZXTT*2995M; PowerWise: N; CompType: MiscPower; Published: 4-Dec-2008; DatasheetVersion: Jun-2006; PackageVersion: revM, May-2009; PackageReference: M08A; Publisher: Altium Limited; PackageDescription: SOIC Narrow, 4.9 x 3.9 x 1.45mm, 8 Lead, 1.27mm Pitch; RoHS: N; PinCount: 8; Code_JEDEC: MS-012-AA; Code_IPC: SOIC127P600-8; ComponentLink1Description: LP2995 Datasheet; ComponentLink1URL: http://www.national.com/ds/LP/LP2995.pdf; ComponentLink2Description: LP2995 Web Page; ComponentLink2URL: http://www.national.com/pf/LP/LP2995.html; ComponentLink3Description: M08A Package Page; ComponentLink3URL: http://www.national.com/packaging/folders/m08a.html
footprint M08A_N (SOIC, 8-Leads, Body 4.9x3.9mm, Pitch 1.27mm, IPC Medium Density)
footprint M08A_L (SOIC, 8-Leads, Body 4.9x3.9mm, Pitch 1.27mm, IPC High Density)
footprint M08A_M (SOIC, 8-Leads, Body 4.9x3.9mm, Pitch 1.27mm, IPC Low Density)
pins: 1 NC, 2 GND (power), 3 VSEN (in), 4 VREF, 5 VDDQ (power), 6 AVIN (power), 7 PVIN (power), 8 VTT (power)

## LP2995M/NOPB
designator U?
DDR Termination Regulator, 8-pin Narrow SOIC, Pb-Free; PartNumber: LP2995M/NOPB; Manufacturer: National Semiconductor; PackageTopMarking: NSZXTT*2995M; PowerWise: N; CompType: MiscPower; Published: 1-Mar-2010; DatasheetVersion: Jun-2006; PackageVersion: revM, May-2009; PackageReference: M08A; Publisher: Altium Limited; PackageDescription: SOIC Narrow, 4.9 x 3.9 x 1.45mm, 8 Lead, 1.27mm Pitch; Supplier 1: Digi-Key; Supplier Part Number 1: LP2995M-ND; Supplier 2: Farnell; Supplier Part Number 2: 1263956; RoHS: Y; PinCount: 8; Code_JEDEC: MS-012-AA; Code_IPC: SOIC127P600-8; ComponentLink1Description: LP2995 Datasheet; ComponentLink1URL: http://www.national.com/ds/LP/LP2995.pdf; ComponentLink2Description: LP2995 Web Page; ComponentLink2URL: http://www.national.com/pf/LP/LP2995.html; ComponentLink3Description: M08A Package Page; ComponentLink3URL: http://www.national.com/packaging/folders/m08a.html
footprint M08A_N (SOIC, 8-Leads, Body 4.9x3.9mm, Pitch 1.27mm, IPC Medium Density)
footprint M08A_L (SOIC, 8-Leads, Body 4.9x3.9mm, Pitch 1.27mm, IPC High Density)
footprint M08A_M (SOIC, 8-Leads, Body 4.9x3.9mm, Pitch 1.27mm, IPC Low Density)
pins: 1 NC, 2 GND (power), 3 VSEN (in), 4 VREF, 5 VDDQ (power), 6 AVIN (power), 7 PVIN (power), 8 VTT (power)

## LP2995MR
designator U?
DDR Termination Regulator, 8-pin PSOP; PartNumber: LP2995MR; Manufacturer: National Semiconductor; PackageTopMarking: NSXYTT*LP2995; PowerWise: N; CompType: MiscPower; Published: 4-Dec-2008; DatasheetVersion: Jun-2006; PackageVersion: revD, Dec-2007; PackageReference: MRA08A; Publisher: Altium Limited; PackageDescription: Molded, PSOP .193 x .154 x .058in, 8 Lead, .050in Pitch; Supplier 1: Farnell; Supplier Part Number 1: 1286959; RoHS: N; PinCount: 8; Code_JEDEC: MS-012-AA; ComponentLink1Description: LP2995 Datasheet; ComponentLink1URL: http://www.national.com/ds/LP/LP2995.pdf; ComponentLink2Description: LP2995 Web Page; ComponentLink2URL: http://www.national.com/pf/LP/LP2995.html; ComponentLink3Description: MRA08A Package Page; ComponentLink3URL: http://www.national.com/packaging/folders/mra08a.html
footprint MRA08A_N (SOIC, 8-Leads, Body 4.9x3.9mm, Pitch 1.27mm, Exposed Pad, IPC Medium Density)
footprint MRA08A_L (SOIC, 8-Leads, Body 4.9x3.9mm, Pitch 1.27mm, Exposed Pad, IPC High Density)
footprint MRA08A_M (SOIC, 8-Leads, Body 4.9x3.9mm, Pitch 1.27mm, Exposed Pad, IPC Low Density)
pins: 1 NC, 2 GND (power), 3 VSEN (in), 4 VREF, 5 VDDQ (power), 6 AVIN (power), 7 PVIN (power), 8 VTT (power), 9 EP (power)

## LP2995MR/NOPB
designator U?
DDR Termination Regulator, 8-pin PSOP, Pb-Free; PartNumber: LP2995MR/NOPB; Manufacturer: National Semiconductor; PackageTopMarking: NSXYTT*LP2995; PowerWise: N; CompType: MiscPower; Published: 1-Mar-2010; DatasheetVersion: Jun-2006; PackageVersion: revD, Dec-2007; PackageReference: MRA08A; Publisher: Altium Limited; PackageDescription: Molded, PSOP .193 x .154 x .058in, 8 Lead, .050in Pitch; Supplier 1: Digi-Key; Supplier Part Number 1: LP2995MR-ND; Supplier 2: Farnell; Supplier Part Number 2: 1654324; RoHS: Y; PinCount: 8; Code_JEDEC: MS-012-AA; ComponentLink1Description: LP2995 Datasheet; ComponentLink1URL: http://www.national.com/ds/LP/LP2995.pdf; ComponentLink2Description: LP2995 Web Page; ComponentLink2URL: http://www.national.com/pf/LP/LP2995.html; ComponentLink3Description: MRA08A Package Page; ComponentLink3URL: http://www.national.com/packaging/folders/mra08a.html
footprint MRA08A_N (SOIC, 8-Leads, Body 4.9x3.9mm, Pitch 1.27mm, Exposed Pad, IPC Medium Density)
footprint MRA08A_L (SOIC, 8-Leads, Body 4.9x3.9mm, Pitch 1.27mm, Exposed Pad, IPC High Density)
footprint MRA08A_M (SOIC, 8-Leads, Body 4.9x3.9mm, Pitch 1.27mm, Exposed Pad, IPC Low Density)
pins: 1 NC, 2 GND (power), 3 VSEN (in), 4 VREF, 5 VDDQ (power), 6 AVIN (power), 7 PVIN (power), 8 VTT (power), 9 EP (power)

## LP2995MRX
designator U?
DDR Termination Regulator, 8-pin PSOP; PartNumber: LP2995MRX; Manufacturer: National Semiconductor; PackageTopMarking: NSXYTT*LP2995; PowerWise: N; CompType: MiscPower; Published: 1-Mar-2010; DatasheetVersion: Jun-2006; PackageVersion: revD, Dec-2007; PackageReference: MRA08A; Publisher: Altium Limited; PackageDescription: Molded, PSOP .193 x .154 x .058in, 8 Lead, .050in Pitch; RoHS: N; PinCount: 8; Code_JEDEC: MS-012-AA; ComponentLink1Description: LP2995 Datasheet; ComponentLink1URL: http://www.national.com/ds/LP/LP2995.pdf; ComponentLink2Description: LP2995 Web Page; ComponentLink2URL: http://www.national.com/pf/LP/LP2995.html; ComponentLink3Description: MRA08A Package Page; ComponentLink3URL: http://www.national.com/packaging/folders/mra08a.html
footprint MRA08A_N (SOIC, 8-Leads, Body 4.9x3.9mm, Pitch 1.27mm, Exposed Pad, IPC Medium Density)
footprint MRA08A_L (SOIC, 8-Leads, Body 4.9x3.9mm, Pitch 1.27mm, Exposed Pad, IPC High Density)
footprint MRA08A_M (SOIC, 8-Leads, Body 4.9x3.9mm, Pitch 1.27mm, Exposed Pad, IPC Low Density)
pins: 1 NC, 2 GND (power), 3 VSEN (in), 4 VREF, 5 VDDQ (power), 6 AVIN (power), 7 PVIN (power), 8 VTT (power), 9 EP (power)

## LP2995MX
designator U?
DDR Termination Regulator, 8-pin Narrow SOIC; PartNumber: LP2995MX; Manufacturer: National Semiconductor; PackageTopMarking: NSZXTT*2995M; PowerWise: N; CompType: MiscPower; Published: 1-Mar-2010; DatasheetVersion: Jun-2006; PackageVersion: revM, May-2009; PackageReference: M08A; Publisher: Altium Limited; PackageDescription: SOIC Narrow, 4.9 x 3.9 x 1.45mm, 8 Lead, 1.27mm Pitch; RoHS: N; PinCount: 8; Code_JEDEC: MS-012-AA; Code_IPC: SOIC127P600-8; ComponentLink1Description: LP2995 Datasheet; ComponentLink1URL: http://www.national.com/ds/LP/LP2995.pdf; ComponentLink2Description: LP2995 Web Page; ComponentLink2URL: http://www.national.com/pf/LP/LP2995.html; ComponentLink3Description: M08A Package Page; ComponentLink3URL: http://www.national.com/packaging/folders/m08a.html
footprint M08A_N (SOIC, 8-Leads, Body 4.9x3.9mm, Pitch 1.27mm, IPC Medium Density)
footprint M08A_L (SOIC, 8-Leads, Body 4.9x3.9mm, Pitch 1.27mm, IPC High Density)
footprint M08A_M (SOIC, 8-Leads, Body 4.9x3.9mm, Pitch 1.27mm, IPC Low Density)
pins: 1 NC, 2 GND (power), 3 VSEN (in), 4 VREF, 5 VDDQ (power), 6 AVIN (power), 7 PVIN (power), 8 VTT (power)